# Altium schematic symbol library WL-SBCD.SchLib: 6 symbols
Pins are listed as number, name and electrical type; pins without a type are passive.

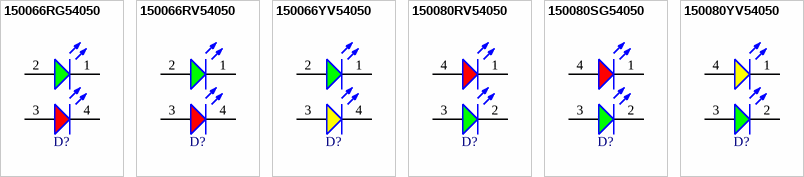
[diagram p0: symbols 150066RG54050 to 150080YV54050]

## 150066RG54050
designator D?, comment Red & Green, 130°  (value not drawn)
WL-SBCD SMT Bi-color Chip LED Diffused, size 0606, Red & Green, 130°; Manufacturer Part Number: 150066RG54050; Manufacturer: Wurth Elektronik; Case/Size Code: 0606; Chip Technology: AlInGaP + InGaN; Dominant Wavelength (Green): 525nm; Dominant Wavelength (Red): 624nm; Forward Voltage (Green): 3.3V; Forward Voltage (Red): 2V; Peak Wavelength (Green): 520nm; Peak Wavelength (Red): 632nm; Category: Signal LEDs; Match Code: WL-SBCD; ComponentLink1Description: Website Link; ComponentLink1URL: https://www.we-online.com/redexpert/article/150066RG54050?ad; ComponentLink2Description: Datasheet Link; ComponentLink2URL: https://www.we-online.com/redexpert/spec/150066RG54050?ad; Mount: Surface Mount; Operating Temperature Max: 85°C; Operating Temperature Min: -40°C; Packaging: Tape and Reel; Length: 1.6mm; Width: 1.5mm; Height: 0.55mm; Emitting Color: Red & Green; Viewing Angle: 130°
footprint WL-SBCD_0606
simulation model 0606_150066RG54050
pins: 1 K, 2 A, 3 A, 4 K

## 150066RV54050
designator D?, comment Red & Bright Green, 130°  (value not drawn)
WL-SBCD SMT Bi-color Chip LED Diffused, size 0606, Red & Bright Green, 130°; Manufacturer Part Number: 150066RV54050; Manufacturer: Wurth Elektronik; Case/Size Code: 0606; Chip Technology: AlInGaP; Dominant Wavelength (Bright Green): 573nm; Dominant Wavelength (Red): 624nm; Forward Voltage (Bright Green): 2V; Peak Wavelength (Bright Green): 575nm; Peak Wavelength (Red): 632nm; Category: Signal LEDs; Match Code: WL-SBCD; ComponentLink1Description: Website Link; ComponentLink1URL: https://www.we-online.com/redexpert/article/150066RV54050?ad; ComponentLink2Description: Datasheet Link; ComponentLink2URL: https://www.we-online.com/redexpert/spec/150066RV54050?ad; Mount: Surface Mount; Operating Temperature Max: 85°C; Operating Temperature Min: -40°C; Packaging: Tape and Reel; Length: 1.6mm; Width: 1.5mm; Height: 0.55mm; Emitting Color: Red & Bright Green; Forward Voltage (Red): 2V; Viewing Angle: 130°
footprint WL-SBCD_0606
simulation model 0606_150066RV54050
pins: 1 K, 2 A, 3 A, 4 K

## 150066YV54050
designator D?, comment Yellow & Bright Green, 130°  (value not drawn)
WL-SBCD SMT Bi-color Chip LED Diffused, size 0606, Yellow & Bright Green, 130°; Manufacturer Part Number: 150066YV54050; Manufacturer: Wurth Elektronik; Case/Size Code: 0606; Chip Technology: AlInGaP; Dominant Wavelength (Bright Green): 573nm; Dominant Wavelength (Yellow): 589nm; Forward Voltage (Bright Green): 2V; Peak Wavelength (Bright Green): 575nm; Peak Wavelength (Yellow): 591nm; Category: Signal LEDs; Match Code: WL-SBCD; ComponentLink1Description: Website Link; ComponentLink1URL: https://www.we-online.com/redexpert/article/150066YV54050?ad; ComponentLink2Description: Datasheet Link; ComponentLink2URL: https://www.we-online.com/redexpert/spec/150066YV54050?ad; Mount: Surface Mount; Operating Temperature Max: 85°C; Operating Temperature Min: -40°C; Packaging: Tape and Reel; Length: 1.6mm; Width: 1.5mm; Height: 0.55mm; Emitting Color: Yellow & Bright Green; Forward Voltage (Yellow): 2V; Viewing Angle: 130°
footprint WL-SBCD_0606
simulation model 0606_150066YV54050
pins: 1 K, 2 A, 3 A, 4 K

## 150080RV54050
designator D?, comment Red & Bright Green, 130°  (value not drawn)
WL-SBCD SMT Bi-color Chip LED Diffused, size 0805, Red & Bright Green, 130°; Manufacturer Part Number: 150080RV54050; Manufacturer: Wurth Elektronik; Case/Size Code: 0805; Chip Technology: AlInGaP; Dominant Wavelength (Bright Green): 573nm; Dominant Wavelength (Red): 624nm; Forward Voltage (Bright Green): 2V; Peak Wavelength (Bright Green): 575nm; Peak Wavelength (Red): 632nm; Category: Signal LEDs; Match Code: WL-SBCD; ComponentLink1Description: Website Link; ComponentLink1URL: https://www.we-online.com/redexpert/article/150080RV54050?ad; ComponentLink2Description: Datasheet Link; ComponentLink2URL: https://www.we-online.com/redexpert/spec/150080RV54050?ad; Mount: Surface Mount; Operating Temperature Max: 85°C; Operating Temperature Min: -40°C; Packaging: Tape and Reel; Length: 2mm; Width: 1.3mm; Height: 0.5mm; Emitting Color: Red & Bright Green; Forward Voltage (Red): 2V; Viewing Angle: 130°
footprint WL-SBCD_0805
simulation model 0805_150080RV54050
pins: 1 K, 2 K, 3 A, 4 A

## 150080SG54050
designator D?, comment Super Red & Green, 130°  (value not drawn)
WL-SBCD SMT Bi-color Chip LED Diffused, size 0805, Super Red & Green, 130°; Manufacturer Part Number: 150080SG54050; Manufacturer: Wurth Elektronik; Case/Size Code: 0805; Chip Technology: AlInGaP + GaN; Dominant Wavelength (Green): 525nm; Dominant Wavelength (Super Red): 630nm; Forward Voltage (Green): 3.3V; Forward Voltage (Super Red): 2V; Peak Wavelength (Green): 520nm; Peak Wavelength (Super Red): 645nm; Category: Signal LEDs; Match Code: WL-SBCD; ComponentLink1Description: Website Link; ComponentLink1URL: https://www.we-online.com/redexpert/article/150080SG54050?ad; ComponentLink2Description: Datasheet Link; ComponentLink2URL: https://www.we-online.com/redexpert/spec/150080SG54050?ad; Mount: Surface Mount; Operating Temperature Max: 85°C; Operating Temperature Min: -40°C; Packaging: Tape and Reel; Length: 2mm; Width: 1.3mm; Height: 0.5mm; Emitting Color: Super Red & Green; Viewing Angle: 130°
footprint WL-SBCD_0805
simulation model 0805_150080SG54050
pins: 1 K, 2 K, 3 A, 4 A

## 150080YV54050
designator D?, comment Yellow & Bright Green, 130°  (value not drawn)
WL-SBCD SMT Bi-color Chip LED Diffused, size 0805, Yellow & Bright Green, 130°; Manufacturer Part Number: 150080YV54050; Manufacturer: Wurth Elektronik; Case/Size Code: 0805; Chip Technology: AlInGaP; Dominant Wavelength (Bright Green): 573nm; Dominant Wavelength (Yellow): 589nm; Forward Voltage (Bright Green): 2V; Peak Wavelength (Bright Green): 575nm; Peak Wavelength (Yellow): 591nm; Category: Signal LEDs; Match Code: WL-SBCD; ComponentLink1Description: Website Link; ComponentLink1URL: https://www.we-online.com/redexpert/article/150080YV54050?ad; ComponentLink2Description: Datasheet Link; ComponentLink2URL: https://www.we-online.com/redexpert/spec/150080YV54050?ad; Mount: Surface Mount; Operating Temperature Max: 85°C; Operating Temperature Min: -40°C; Packaging: Tape and Reel; Length: 2mm; Width: 1.3mm; Height: 0.5mm; Emitting Color: Yellow & Bright Green; Forward Voltage (Yellow): 2V; Viewing Angle: 130°
footprint WL-SBCD_0805
simulation model 0805_150080YV54050
pins: 1 K, 2 K, 3 A, 4 A